# Altium schematic symbol library TC7W53FK.SchLib: 1 symbol
Pins are listed as number, name and electrical type; pins without a type are passive.

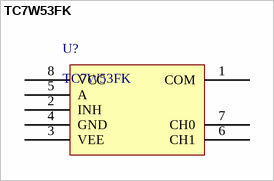
[diagram p0: symbol TC7W53FK]

## TC7W53FK
designator U?
2-Channel Multiplexer/Demultiplexer
footprint SSOP8-P-0.50A
pins: 1 COM, 2 INH, 3 VEE, 4 GND, 5 A, 6 CH1, 7 CH0, 8 VCC